# Altium footprint library PcbLib2.PcbLib: 21 footprints (part 2 of 2)
Each footprint in its own frame and in the unit in brackets; x right, y up, seen from the top. Pads: shape width x height; smd on the part's side, far side on the other; paste and mask are expansions set on the pad; w line width, h text height; cw(c..) or ccw(c..) is an arc to the next point about the centre after c.
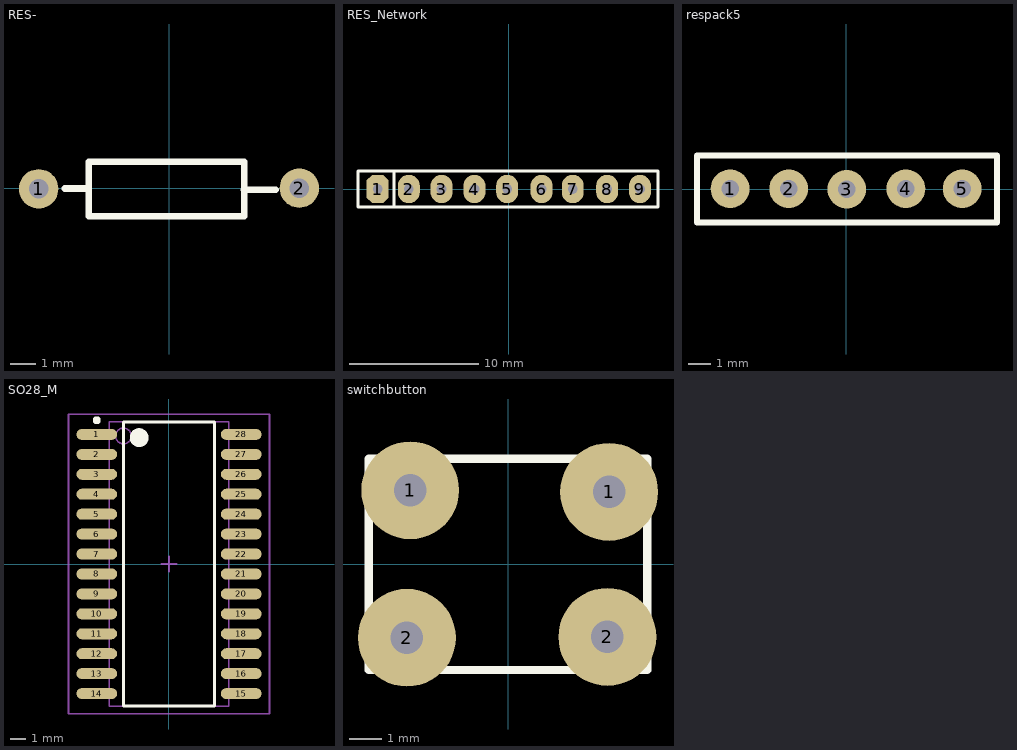
[diagram p1: the footprints below, top view; thin cyan lines are the x and y axes]

## RES- [mil]
pads (2):
  round 60 hole 30: 1(-198.5,-0.5) 2(198.5,0.5)
Top Overlay:
  lines w10: -159.06,0 -122.05,0 ; 113.78,-1.97 162.6,-1.97 ; -122.05,-42.13 114.57,-42.13 114.57,40.55 -122.05,40.55 -122.05,-42.13
3D body: height 95, standoff -78.74, extent -212.31,-46.74 211.31,47.74

## RES_Network [mm]
pads (9):
  oct 1.7x2.2 hole 0.762: 1(-10.16,0)
  oval 1.7x2.2 hole 0.762: 2(-7.747,0) 3(-5.207,0) 4(-2.667,0) 5(-0.127,0) 6(2.54,0) 7(4.953,0) 8(7.62,0) 9(10.16,0)
Top Overlay:
  lines w0.254: -8.89,-1.397 -8.89,1.397 ; -11.684,-1.397 -11.684,1.397 11.557,1.397 11.557,-1.397 -11.684,-1.397
3D body: height 5.3, standoff -3.2, extent -11.25,-0.635 11.25,0.615

## respack5 [mil]
pads (5):
  round 66.93 hole 30: 1(-200,0.5) 2(-99,0.5) 3(1,-0.5) 4(103,0.5) 5(200,0.5)
Top Overlay:
  lines w10: -257,-57.5 260,-57.5 260,57.5 -257,57.5 -257,-57.5
3D body: height 221.65, standoff -116.14, extent -248.99,-48.5 250.99,50.32

## SO28_M [mm] "SOIC, 28-Leads, Body 17.9x7.5mm, Pitch 1.27mm, IPC Low Density"
height 2.65
pads (28):
  oval 2.6x0.7 smd: 1(-4.6,8.255) 2(-4.6,6.985) 3(-4.6,5.715) 4(-4.6,4.445) 5(-4.6,3.175) 6(-4.6,1.905) 7(-4.6,0.635) 8(-4.6,-0.635) 9(-4.6,-1.905) 10(-4.6,-3.175) 11(-4.6,-4.445) 12(-4.6,-5.715) 13(-4.6,-6.985) 14(-4.6,-8.255) 15(4.6,-8.255) 16(4.6,-6.985) 17(4.6,-5.715) 18(4.6,-4.445) 19(4.6,-3.175) 20(4.6,-1.905) 21(4.6,-0.635) 22(4.6,0.635) 23(4.6,1.905) 24(4.6,3.175) 25(4.6,4.445) 26(4.6,5.715) 27(4.6,6.985) 28(4.6,8.255)
Top Overlay:
  circle w0.25: c-4.6,9.155 r0.125
  circle w0.6: c-1.9,8.05 r0.3
  lines w0.2: -2.9,-9.05 -2.9,9.05 2.9,9.05 2.9,-9.05 -2.9,-9.05
Mechanical 13:
  circle w0.1: c-2.9,8.155 r0.5
  lines w0.1: -3.8,-9.055 -3.8,9.055 3.8,9.055 3.8,-9.055 -3.8,-9.055
Mechanical 15:
  lines w0.1: -0.5,0 0.5,0 ; 0,-0.5 0,0.5 ; -6.4,-9.55 -6.4,9.55 6.4,9.55 6.4,-9.55 -6.4,-9.55
3D body: height 2.39, standoff -0.25, extent -5.336,-9.04 5.334,9.04

## switchbutton [mm]
pads (4):
  round 3 hole 1: 1(-2.997,2.261) 1(3.099,2.21) 2(-3.099,-2.261) 2(3.048,-2.235)
Top Overlay:
  lines w0.254: -4.267,-3.251 4.267,-3.251 4.267,3.226 -4.267,3.226 -4.267,-3.251
3D body: height 4.9, standoff -3.59, extent -3.989,-2.997 3.989,3.003